# EAGLE library part SILABS_GREG_CP2102N-QFN24 (library main)
Single-Chip USB to UART Bridge Source: USBXpress™ Family CP2102N Data Sheet <https://www.silabs.com/documents/public/data-sheets/cp2102n-datasheet.pdf>
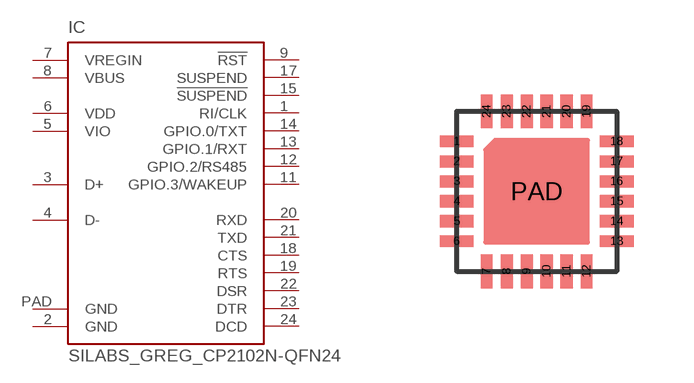
[diagram p7: symbol with the pads of SILABS_GREG_QFN24; footprint SILABS_GREG_QFN24]

Designator prefix IC

## SILABS_GREG_CP2102N-QFN24  [SILABS_GREG_QFN24]
1  RI/CLK
2  GND  pwr
3  D+
4  D-
5  VIO  pas
6  VDD  pwr
7  VREGIN  pas
8  VBUS  in
9  !RST  in
11  GPIO.3/WAKEUP
12  GPIO.2/RS485
13  GPIO.1/RXT
14  GPIO.0/TXT
15  !SUSPEND  out
17  SUSPEND  out
18  CTS  in
19  RTS  out
20  RXD  in
21  TXD  out
22  DSR  in
23  DTR  out
24  DCD  in
PAD  GND  pwr

## Footprint SILABS_GREG_QFN24 (pad centres in mm)
smd 0.85 x 0.3: 1 -2,1.25; 2 -2,0.75; 3 -2,0.25; 4 -2,-0.25; 5 -2,-0.75; 6 -2,-1.25; 13 2,-1.25; 14 2,-0.75; 15 2,-0.25; 16 2,0.25; 17 2,0.75; 18 2,1.25
smd 0.3 x 0.85: 7 -1.25,-2; 8 -0.75,-2; 9 -0.25,-2; 10 0.25,-2; 11 0.75,-2; 12 1.25,-2; 19 1.25,2; 20 0.75,2; 21 0.25,2; 22 -0.25,2; 23 -0.75,2; 24 -1.25,2
smd 1.02 x 1.02: PAD 0,0